# Altium schematic symbol library SCH - INTERFACE - CAN - NXP TJA1042.SCHLIB: 3 symbols
Pins are listed as number, name and electrical type; pins without a type are passive.

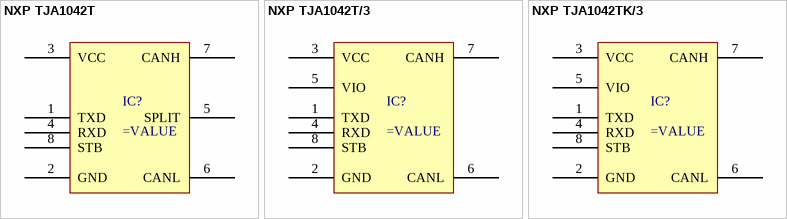
[diagram p0: symbols NXP TJA1042T to NXP TJA1042TK/3]

## NXP TJA1042T
designator IC?
pins: 1 TXD, 2 GND, 3 VCC, 4 RXD, 5 SPLIT, 6 CANL, 7 CANH, 8 STB

## NXP TJA1042T/3
designator IC?
pins: 1 TXD, 2 GND, 3 VCC, 4 RXD, 5 VIO, 6 CANL, 7 CANH, 8 STB

## NXP TJA1042TK/3
designator IC?
pins: 1 TXD, 2 GND, 3 VCC, 4 RXD, 5 VIO, 6 CANL, 7 CANH, 8 STB